# EAGLE library part BEYER_PADS (library ampex)
Beyer Head Input Transformer Pads
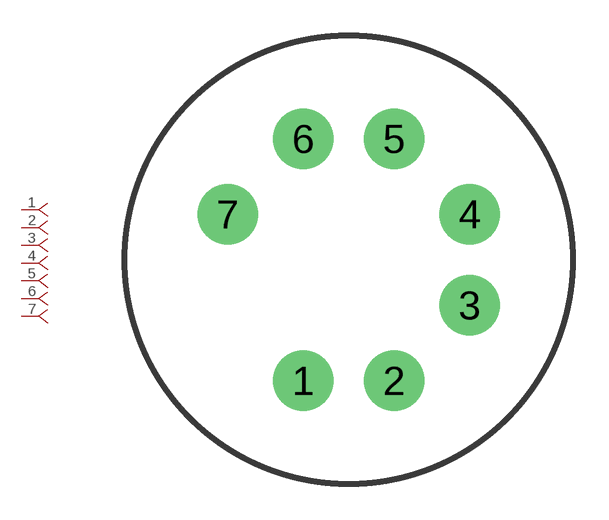
[diagram p13: symbol with the pads of BEYER; footprint BEYER]

Designator prefix T; gates 1=HD-TRANS-PIN 2=HD-TRANS-PIN 3=HD-TRANS-PIN 4=HD-TRANS-PIN 5=HD-TRANS-PIN 6=HD-TRANS-PIN 7=HD-TRANS-PIN

## BEYER_PADS  [BEYER]
1  1:1  pas
2  2:1  pas
3  3:1  pas
4  4:1  pas
5  5:1  pas
6  6:1  pas
7  7:1  pas

## Footprint BEYER (pad centres in mm)
Head Input Transformer Beyer 4580199-01
drill 1.422 pad 2.54: 1 -1.905,-5.08; 2 1.905,-5.08; 3 5.08,-1.905; 4 5.08,1.905; 5 1.905,5.08; 6 -1.905,5.08; 7 -5.08,1.905